# Altium integrated library TI Amplifiers and Linear PGA-VGA.IntLib: 149 symbols (part 8 of 8)
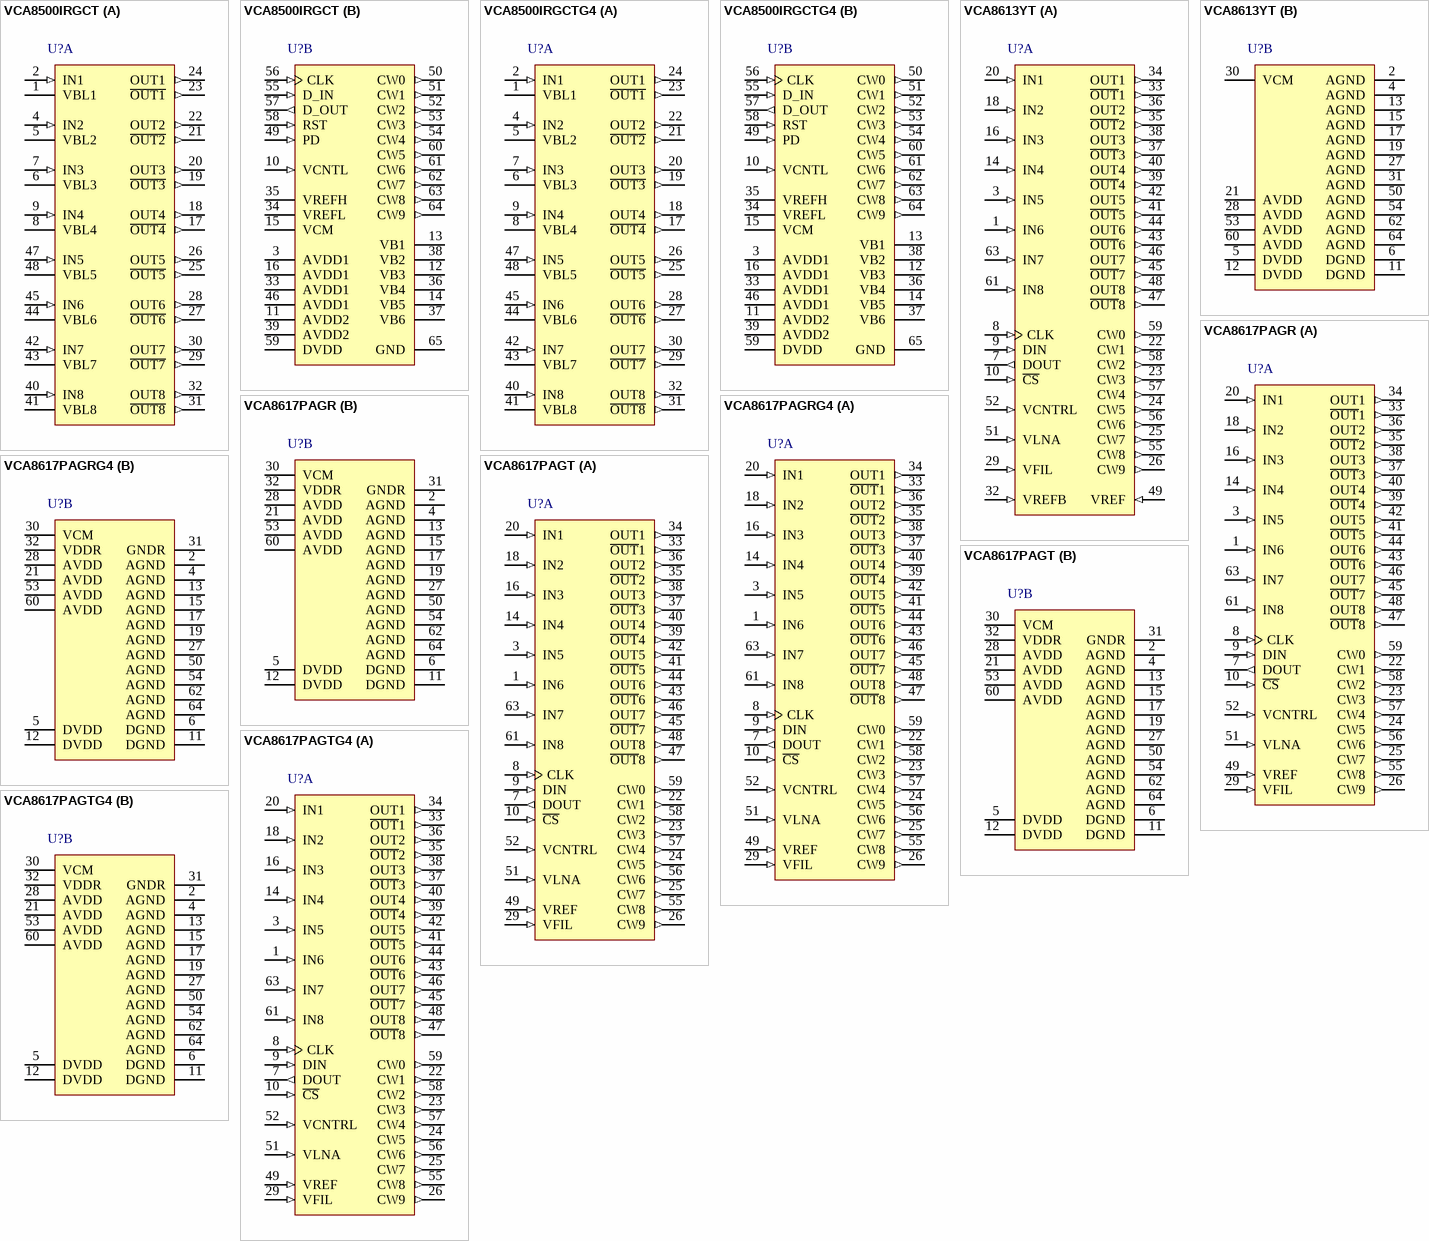
[diagram p14: symbols VCA8500IRGCT to VCA8617PAGTG4]

## VCA8617PAGTG4
designator U?
8-Channel Variable Gain Amplifier, -40 to 85 degC, 64-pin QFP (PAG64), Green (RoHS & no Sb/Br); Manufacturer: Texas Instruments; PartNumber: VCA8617PAGTG4; BW @ Acl(MHz): 14.5; Number of Channels: 8; Slew Rate(Typ)(V/us): 300; Vs(Max)(V): 3.15; Vs(Min)(V): 2.85; DatasheetVersion: SBOS308F; PackageVersion: 4040282/C, 11/1996; PackageReference: PAG64; PackageDescription: 64-Pin Plastic Flat Pack, Body 10 x 10 mm, Pitch 0.50 mm; Supplier 1: Digi-Key; Supplier Part Number 1: VCA8617PAGTG4-ND; Supplier 2: Mouser; Supplier Part Number 2: 595-VCA8617PAGTG4; Eco-Plan: Green (RoHS & no Sb/Br); SubFamily: Variable Gain Amplifier; Mounting Technology: Surface Mount; Code_JEDEC: MS-026; ComponentLink1Description: Manufacturer URL; ComponentLink1URL: http://www.ti.com/; ComponentLink2Description: Datasheet; ComponentLink2URL: http://www.ti.com/general/docs/lit/getliterature.tsp?genericPartNumber=VCA8617&fileType=pdf; ComponentLink3Description: Package Specification; ComponentLink3URL: http://www.ti.com/lit/ml/mtqf006a/mtqf006a.pdf
footprint TI-PAG64_N (QFP, 64-Leads, Body 10x10mm, Pitch 0.5mm, IPC Medium Density)
footprint TI-PAG64_L (QFP, 64-Leads, Body 10x10mm, Pitch 0.5mm, IPC High Density)
footprint TI-PAG64_M (QFP, 64-Leads, Body 10x10mm, Pitch 0.5mm, IPC Low Density)
part A pins: 1 IN6 (in) "Single-Ended LNA Inputs", 3 IN5 (in) "Single-Ended LNA Inputs", 7 DOUT (out) "Serial Data Output Pin", 8 CLK (in) "Serial Data Input Clock", 9 DIN (in) "Serial Data Input Pin", 10 ~{CS} (in) "Serial Data Chip Select", 14 IN4 (in) "Single-Ended LNA Inputs", 16 IN3 (in) "Single-Ended LNA Inputs", 18 IN2 (in) "Single-Ended LNA Inputs", 20 IN1 (in) "Single-Ended LNA Inputs", 22 CW1 (out) "Continuous Wave Processor Outputs", 23 CW3 (out) "Continuous Wave Processor Outputs", 24 CW5 (out) "Continuous Wave Processor Outputs", 25 CW7 (out) "Continuous Wave Processor Outputs", 26 CW9 (out) "Continuous Wave Processor Outputs", 29 VFIL (in) "Reference Voltage for Output Filter-internally generated; requires external bypass cap.", 33 ~{OUT}1 (out) "Negative Polarity PGA Outputs", 34 OUT1 (out) "Positive Polarity PGA Outputs", 35 ~{OUT}2 (out) "Negative Polarity PGA Outputs", 36 OUT2 (out) "Positive Polarity PGA Outputs", 37 ~{OUT}3 (out) "Negative Polarity PGA Outputs", 38 OUT3 (out) "Positive Polarity PGA Outputs", 39 ~{OUT}4 (out) "Negative Polarity PGA Outputs", 40 OUT4 (out) "Positive Polarity PGA Outputs", 41 ~{OUT}5 (out) "Negative Polarity PGA Outputs", 42 OUT5 (out) "Positive Polarity PGA Outputs", 43 ~{OUT}6 (out) "Negative Polarity PGA Outputs", 44 OUT6 (out) "Positive Polarity PGA Outputs", 45 ~{OUT}7 (out) "Negative Polarity PGA Outputs", 46 OUT7 (out) "Positive Polarity PGA Outputs", 47 ~{OUT}8 (out) "Negative Polarity PGA Outputs", 48 OUT8 (out) "Positive Polarity PGA Outputs", 49 VREF (in) "Reference Voltage for Attenuator-internally generated; requires external bypass cap.", 51 VLNA (in) "Reference Voltage for LNA-internally generated; requires external bypass cap.", 52 VCNTRL (in) "Attenuator Control Voltage Input", 55 CW8 (out) "Continuous Wave Processor Outputs", 56 CW6 (out) "Continuous Wave Processor Outputs", 57 CW4 (out) "Continuous Wave Processor Outputs", 58 CW2 (out) "Continuous Wave Processor Outputs", 59 CW0 (out) "Continuous Wave Processor Outputs", 61 IN8 (in) "Single-Ended LNA Inputs", 63 IN7 (in) "Single-Ended LNA Inputs"
part B pins: 2 AGND (power) "Analog Ground", 4 AGND (power) "Analog Ground", 5 DVDD (power) "Digital Supplies", 6 DGND (power) "Digital Ground", 11 DGND (power) "Digital Ground", 12 DVDD (power) "Digital Supplies", 13 AGND (power) "Analog Ground", 15 AGND (power) "Analog Ground", 17 AGND (power) "Analog Ground", 19 AGND (power) "Analog Ground", 21 AVDD (power) "Analog Supplies", 27 AGND (power) "Analog Ground", 28 AVDD (power) "Analog Supplies", 30 VCM (power) "Common-Mode Voltage-internally generated; requires external bypass cap.", 31 GNDR (power) "Reference Ground", 32 VDDR (power) "Reference Power Supply", 50 AGND (power) "Analog Ground", 53 AVDD (power) "Analog Supplies", 54 AGND (power) "Analog Ground", 60 AVDD (power) "Analog Supplies", 62 AGND (power) "Analog Ground", 64 AGND (power) "Analog Ground"